# EAGLE library part TPS7A49XX (library pdh-module)
TPS7A4901 Adjustable low-noise regulator
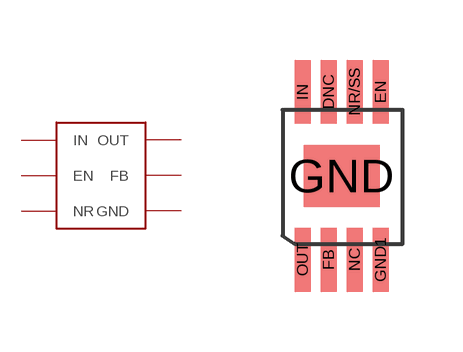
[diagram p0: symbol with the pads of DGN; footprint DGN]

Designator prefix U

## TPS7A49XX  [DGN]
EN  EN
FB  FB
GND  GND
GND1  GND
IN  IN
NR/SS  NR
OUT  OUT

## Footprint DGN (pad centres in mm)
smd 0.4 x 1.6: DNC 0.65,4.2; EN 1.95,4.2; FB 0.65,0; GND1 1.95,0; IN 0,4.2; NC 1.3,0; NR/SS 1.3,4.2; OUT 0,0
smd 1.9 x 1.55: GND 0.975,2.1